# Altium footprint library 709176001432006.PcbLib: 1 footprints
Each footprint in its own frame and in the unit in brackets; x right, y up, seen from the top. Pads: shape width x height; smd on the part's side, far side on the other; paste and mask are expansions set on the pad; w line width, h text height; cw(c..) or ccw(c..) is an arc to the next point about the centre after c.
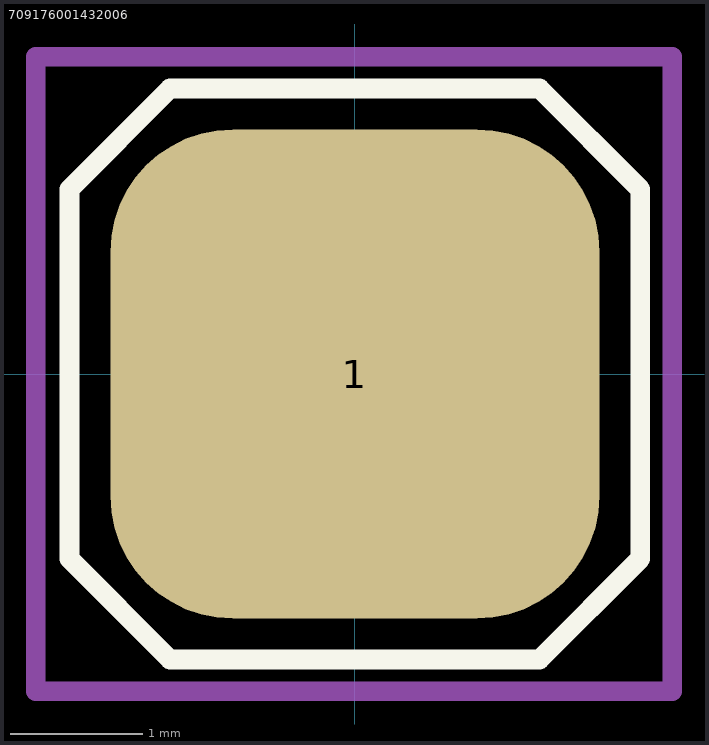
[diagram p0: the footprint, top view; thin cyan lines are the x and y axes]

## 709176001432006 [mm]
pads (1):
  rrect50% 3.7x3.7 smd paste-0.8: 1(0,0)
Top Overlay:
  lines w0.15: -2.159,-1.397 -2.159,1.397 -1.397,2.159 1.397,2.159 2.159,1.397 2.159,-1.397 1.397,-2.159 -1.397,-2.159 -2.159,-1.397
Top Assembly:
  lines w0.15: -1.3,-1.25 1.3,-1.25 1.3,1.25 -1.3,1.25 -1.3,-1.25
Top Courtyard:
  lines w0.15: -2.413,-2.4 2.4,-2.4 2.4,2.4 -2.413,2.4 -2.413,0.889 -2.413,-2.4
3D body "AVX-70-9176-001-432-006.STEP": height 2.75, standoff 0, extent -1.27,-1.25 1.33,1.25